# EAGLE library part 7SG-26 (library chuong)
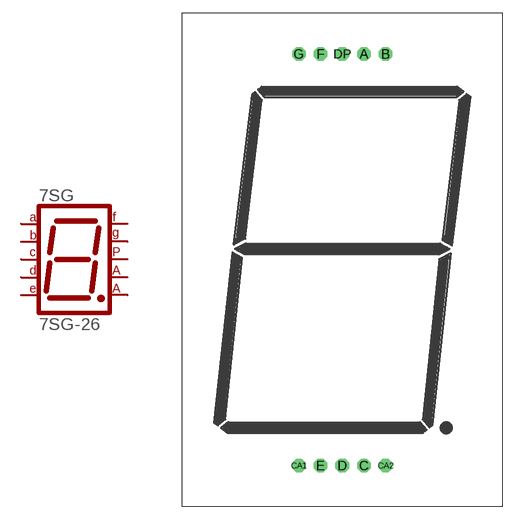
[diagram p4: symbol with the pads of 7SG-26; footprint 7SG-26]

Designator prefix 7SG

## 7SG-26  [7SG-26]
A  A  pas
B  B  pas
C  C  pas
CA1  CA1  pas
CA2  CA2  pas
D  D  pas
DP  DP  pas
E  E  pas
F  F  pas
G  G  pas

## Footprint 7SG-26 (pad centres in mm)
drill 0.61 pad 1.6 octagon: A 21.59,53.34; B 24.13,53.34; C 21.59,5.08; CA1 13.97,5.08; CA2 24.13,5.08; D 19.05,5.08; DP 19.05,53.34; E 16.51,5.08; F 16.51,53.34; G 13.97,53.34